# Altium schematic symbol library 691 216 700 0xx.SchLib: 2 symbols
Pins are listed as number, name and electrical type; pins without a type are passive.

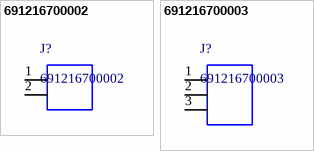
[diagram p0: symbols 691216700002 to 691216700003]

## 691216700002
designator J?
WR-TBL Vertical Cable Entry With Rising Cage Clamp,Serie 2167 - 5.00 mm; Manufacturer: Wurth Elektronik; ComponentLink1 Description: Manufacturer; ComponentLink2 Description: Datasheet; ComponentLink1URL: http://www.we-online.de; ComponentLink2URL: http://katalog.we-online.de/em/datasheet/6912167000XX.pdf; Created by: Baojun Chen; Created Date: 8.Sep.2015; partNo: 691216700002
footprint 691216700002 (Serie 2167 - 5.00 mm _ 2 pins)
pins: 1, 2

## 691216700003
designator J?
WR-TBL Vertical Cable Entry With Rising Cage Clamp,Serie 2167 - 5.00 mm; Manufacturer: Wurth Elektronik; ComponentLink1 Description: Manufacturer; ComponentLink2 Description: Datasheet; ComponentLink1URL: http://www.we-online.de; ComponentLink2URL: http://katalog.we-online.de/em/datasheet/6912167000XX.pdf; Created by: Baojun Chen; Created Date: 8.Sep.2015; partNo: 691216700003
footprint 691216700003 (Serie 2167 - 5.00 mm _ 3 pins)
pins: 1, 2, 3